# Altium schematic symbol library Component_2.SchLib: 14 symbols (part 2 of 2)
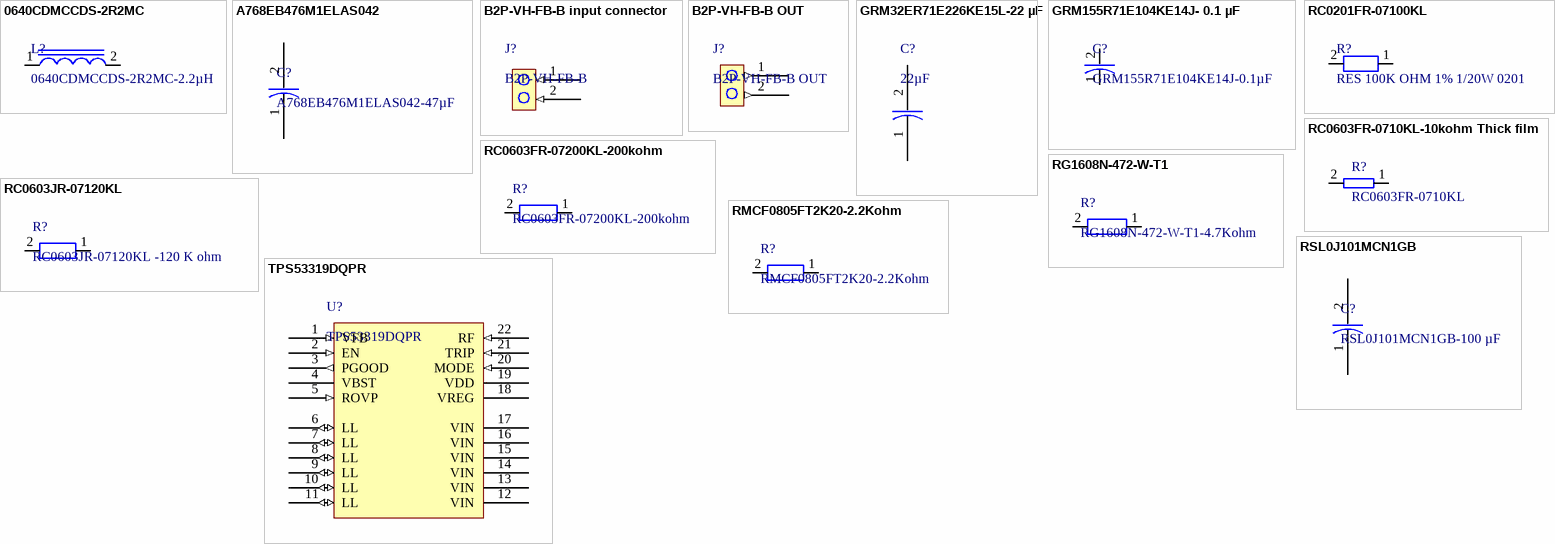
[diagram p1: symbols 0640CDMCCDS-2R2MC to TPS53319DQPR]

## RG1608N-472-W-T1
designator R?, comment RG1608N-472-W-T1-4.7Kohm
Res Thin Film 0603 4.7K Ohm 0.05% 0.1W(1/10W) ±10ppm/C Pad SMD Automotive Medical T/R; Manufacturer: Susumu; Max Power Dissipation: 100mW; Value: 4.7kΩ; Temperature Coefficient: 10ppm/°C; Voltage Rating: 75V; Supplier: DigiKey; Supplier Part Number: RG16N4.7KWDKR-ND; Manufacturer Part Number: RG1608N-472-W-T1; RoHS: Compliant; Category: Chip SMD Resistors; Stock: 5877; Pricing: 1=0.6, 10=0.499, 25=0.4624, 50=0.4368, 100=0.4133, 250=0.38512, 500=0.36608 (USD); Case/Package: 0603; Case Code (Imperial): 0603; Case Code (Metric): 1608; Composition: Metal Film; Country of Origin: Mainland China, Japan; Export Control Classification Number (ECCN) Code: EAR99; Features: Automotive AEC-Q200; Height: 400µm; Harmonized Tariff Schedule (HTS) Code: 8533.21.00.30; Introduction Date: 2006-03-30; Lead Free: Lead Free; Length: 1.6mm; Lifecycle Status: Obsolete; LTB Date: 2011-09-30; LTD Date: 2011-10-31; Max Operating Temperature: 155°C; Min Operating Temperature: -55°C; Mounting Technology: Surface Mount; Number of Terminals: 2; Number of Terminations: 2; Packaging: Cut Tape; Power Rating: 100mW; Schedule B: 8533210045, 8533210045|8533210045|8533210045|8533210045|8533210045; Termination: SMD/SMT; Tolerance: 0.05%; Voltage Rating (DC): 75V; Width: 800µm; Working Voltage: 75V; ComponentLink1URL: https://datasheet.octopart.com:443/RG1608N-472-W-T1-Susumu-datasheet-12510102.pdf?src-supplier=Upverter; ComponentLink1Description: https://datasheet.octopart.com:443/RG1608N-472-W-T1-Susumu-datasheet-12510102.pdf?src-supplier=Upverter; ComponentLink2URL: https://datasheet.octopart.com:443/RG1608N-472-W-T1-Susumu-datasheet-17595413.pdf?src-supplier=IHS; ComponentLink2Description: https://datasheet.octopart.com:443/RG1608N-472-W-T1-Susumu-datasheet-17595413.pdf?src-supplier=IHS; ComponentLink3URL: https://datasheet.octopart.com/RG1608N-472-W-T1-Susumu-datasheet-12509734.pdf; ComponentLink3Description: https://datasheet.octopart.com/RG1608N-472-W-T1-Susumu-datasheet-12509734.pdf; ComponentLink4URL: https://datasheet.octopart.com:443/RG1608N-472-W-T1-Susumu-datasheet-118552.pdf?src-supplier=DigiKey; ComponentLink4Description: https://datasheet.octopart.com:443/RG1608N-472-W-T1-Susumu-datasheet-118552.pdf?src-supplier=DigiKey; Supplier 1: DigiKey; Supplier Part Number 1: RG16N4.7KWDKR-ND
footprint RG1608N-472-W-T1-4.7kohm. (Chip Resistor, 2-Leads, Body 1.70x0.90mm, IPC Medium Density)
pins: 1, 2

## RMCF0805FT2K20-2.2Kohm
designator R?
Res Thick Film 0805 2.2K Ohm 1% 0.125W ±100ppm/°C Molded SMD Paper T/R; Manufacturer: Stackpole Electronics; Manufacturer Package Identifier: 0805 (2012 metric); Max Power Dissipation: 125mW; Value: 2.2kΩ; Voltage Rating: 150V; Supplier: DigiKey; Supplier Part Number: RMCF0805FT2K20CT-ND; Manufacturer Part Number: RMCF0805FT2K20; RoHS: Compliant; Category: Chip SMD Resistors; Stock: 127490; Pricing: 1=0.1, 10=0.027, 25=0.0196, 50=0.0156, 100=0.0127, 250=0.00988, 500=0.00824, 1000=0.00697 (USD); Case/Package: 0805; Case Code (Imperial): 0805; Case Code (Metric): 2012; China RoHS: Non-Compliant; Composition: Thick Film; Contact Plating: Tin; Depth: 1.25mm; Features: Automotive AEC-Q200; Height: 500µm; Length: 2mm; Lifecycle Status: Production; Max Operating Temperature: 155°C; Military Standard: Not; Min Operating Temperature: -55°C; Mounting Technology: Surface Mount; Number of Terminals: 2; Number of Terminations: 2; Packaging: Cut Tape (CT); Power Rating: 125mW; Radiation Hardening: No; Ratings: AEC-Q200; REACH SVHC: Yes; Schedule B: 8533210045, 8533210045|8533210045|8533210045|8533210045|8533210045; Temperature Coefficient: 100ppm/°C; Tolerance: 1%; Width: 1.25mm; Working Voltage: 150V; ComponentLink1URL: https://datasheet.octopart.com:443/RMCF0805FT2K20-Stackpole-Electronics-datasheet-182148065.pdf?src-supplier=IHS; ComponentLink1Description: https://datasheet.octopart.com:443/RMCF0805FT2K20-Stackpole-Electronics-datasheet-182148065.pdf?src-supplier=IHS; ComponentLink2URL: https://datasheet.octopart.com:443/RMCF0805FT2K20-Stackpole-Electronics-datasheet-28504820.pdf?src-supplier=Upverter; ComponentLink2Description: https://datasheet.octopart.com:443/RMCF0805FT2K20-Stackpole-Electronics-datasheet-28504820.pdf?src-supplier=Upverter; ComponentLink3URL: https://datasheet.octopart.com:443/RMCF0805FT2K20-Stackpole-Electronics-datasheet-141193804.pdf?src-supplier=Master+Electronics; ComponentLink3Description: https://datasheet.octopart.com:443/RMCF0805FT2K20-Stackpole-Electronics-datasheet-141193804.pdf?src-supplier=Master+Electronics; ComponentLink4URL: https://datasheet.octopart.com:443/RMCF0805FT2K20-Stackpole-Electronics-datasheet-116606903.pdf?src-supplier=Master+Electronics; ComponentLink4Description: https://datasheet.octopart.com:443/RMCF0805FT2K20-Stackpole-Electronics-datasheet-116606903.pdf?src-supplier=Master+Electronics; ComponentLink5URL: https://datasheet.octopart.com:443/RMCF0805FT2K20-Stackpole-Electronics-datasheet-189104163.pdf?src-supplier=Master+Electronics; ComponentLink5Description: https://datasheet.octopart.com:443/RMCF0805FT2K20-Stackpole-Electronics-datasheet-189104163.pdf?src-supplier=Master+Electronics; ComponentLink6URL: https://datasheet.octopart.com:443/RMCF0805FT2K20-Stackpole-Electronics-datasheet-62091608.pdf?src-supplier=Stackpole+Electronics; ComponentLink6Description: https://datasheet.octopart.com:443/RMCF0805FT2K20-Stackpole-Electronics-datasheet-62091608.pdf?src-supplier=Stackpole+Electronics; ComponentLink7URL: https://datasheet.octopart.com:443/RMCF0805FT2K20-Stackpole-Electronics-datasheet-12534581.pdf?src-supplier=Stackpole+Electronics; ComponentLink7Description: https://datasheet.octopart.com:443/RMCF0805FT2K20-Stackpole-Electronics-datasheet-12534581.pdf?src-supplier=Stackpole+Electronics; ComponentLink8URL: https://datasheet.octopart.com:443/RMCF0805FT2K20-Stackpole-Electronics-datasheet-10788263.pdf?src-supplier=Stackpole+Electronics; ComponentLink8Description: https://datasheet.octopart.com:443/RMCF0805FT2K20-Stackpole-Electronics-datasheet-10788263.pdf?src-supplier=Stackpole+Electronics; ComponentLink9URL: https://datasheet.octopart.com:443/RMCF0805FT2K20-Stackpole-Electronics-datasheet-11546843.pdf?src-supplier=Arrow+Electronics; ComponentLink9Description: https://datasheet.octopart.com:443/RMCF0805FT2K20-Stackpole-Electronics-datasheet-11546843.pdf?src-supplier=Arrow+Electronics; ComponentLink10URL: http://sigma.octopart.com:80/15940719/materials_sheet/Stackpole-Electronics-RMCF0805FT2K20.pdf?src-supplier=Compliance+Statements; ComponentLink10Description: http://sigma.octopart.com:80/15940719/materials_sheet/Stackpole-Electronics-RMCF0805FT2K20.pdf?src-supplier=Compliance+Statements; ComponentLink11URL: http://sigma.octopart.com:80/141158212/rohs_statement/Stackpole-Electronics-RMCF0805FT2K20.pdf?src-supplier=Compliance+Statements; ComponentLink11Description: http://sigma.octopart.com:80/141158212/rohs_statement/Stackpole-Electronics-RMCF0805FT2K20.pdf?src-supplier=Compliance+Statements; ComponentLink12URL: http://sigma.octopart.com:80/141158211/reach_statement/Stackpole-Electronics-RMCF0805FT2K20.pdf?src-supplier=Compliance+Statements; ComponentLink12Description: http://sigma.octopart.com:80/141158211/reach_statement/Stackpole-Electronics-RMCF0805FT2K20.pdf?src-supplier=Compliance+Statements; Supplier 1: DigiKey; Supplier Part Number 1: RMCF0805FT2K20TR-ND
footprint RMCF0805FT2K20-2.2kohm Thick film resistor
pins: 1, 2

## RSL0J101MCN1GB
designator C?, comment RSL0J101MCN1GB-100 µF
Cap Aluminum Polymer 100uF 6.3VDC 20% (6.3 X 4.2mm) SMD 0.018 Ohm 3200mA 2000h 105C T/R; Manufacturer: KYOCERA AVX; Value: 100µF; Dissipation Factor: 0.12%; ESR (Equivalent Series Resistance): 18mΩ; Leakage Current: 315µA; Life (Hours): 2000hours; Ripple Current: 320mA; Ripple Current (AC): 3.2A; Voltage Rating: 6.3V; Supplier: DigiKey; Supplier Part Number: 493-3819-2-ND; Manufacturer Part Number: RSL0J101MCN1GB; RoHS: Compliant; Category: Aluminum Electrolytic Capacitors; Stock: 490; Pricing: 1000=0.4217, 2000=0.39459, 3000=0.38092, 5000=0.36567, 7000=0.35671, 10000=0.34806 (USD); Case/Package: Radial; China RoHS: Compliant; Country of Origin: Mainland China; Diameter: 6.3mm; Export Control Classification Number (ECCN) Code: EAR99; Height: 4.2mm; Height - Seated (Max): 4.191mm; Harmonized Tariff Schedule (HTS) Code: 8532.22.00; Introduction Date: 2009-11-05; Length: 6.5mm; Lifecycle Status: Production; Max Operating Temperature: 105°C; Min Operating Temperature: -55°C; Mounting Technology: Surface Mount; Number of Terminals: 2; Packaging: Tape & Reel; REACH SVHC: Yes; Schedule B: 8532220020; Termination: SMD/SMT; Tolerance: 20%; Voltage Rating (DC): 6.3V; Width: 6.5mm; ComponentLink1URL: https://datasheet.octopart.com:443/RSL0J101MCN1GB-Nichicon-datasheet-169479674.pdf?src-supplier=IHS; ComponentLink1Description: https://datasheet.octopart.com:443/RSL0J101MCN1GB-Nichicon-datasheet-169479674.pdf?src-supplier=IHS; ComponentLink2URL: https://datasheet.octopart.com:443/RSL0J101MCN1GB-Nichicon-datasheet-12517196.pdf?src-supplier=Newark; ComponentLink2Description: https://datasheet.octopart.com:443/RSL0J101MCN1GB-Nichicon-datasheet-12517196.pdf?src-supplier=Newark; ComponentLink3URL: https://datasheet.octopart.com:443/RSL0J101MCN1GB-Nichicon-datasheet-65933903.pdf?src-supplier=Newark; ComponentLink3Description: https://datasheet.octopart.com:443/RSL0J101MCN1GB-Nichicon-datasheet-65933903.pdf?src-supplier=Newark; ComponentLink4URL: https://datasheet.octopart.com:443/RSL0J101MCN1GB-Nichicon-datasheet-182387194.pdf?src-supplier=Future+Electronics; ComponentLink4Description: https://datasheet.octopart.com:443/RSL0J101MCN1GB-Nichicon-datasheet-182387194.pdf?src-supplier=Future+Electronics; ComponentLink5URL: https://datasheet.octopart.com:443/RSL0J101MCN1GB-Nichicon-datasheet-161351370.pdf?src-supplier=Future+Electronics; ComponentLink5Description: https://datasheet.octopart.com:443/RSL0J101MCN1GB-Nichicon-datasheet-161351370.pdf?src-supplier=Future+Electronics; ComponentLink6URL: https://datasheet.octopart.com:443/RSL0J101MCN1GB-Nichicon-datasheet-145428908.pdf?src-supplier=Nichicon+SCT; ComponentLink6Description: https://datasheet.octopart.com:443/RSL0J101MCN1GB-Nichicon-datasheet-145428908.pdf?src-supplier=Nichicon+SCT; ComponentLink7URL: https://datasheet.octopart.com:443/RSL0J101MCN1GB-Nichicon-datasheet-140570125.pdf?src-supplier=Arrow.cn; ComponentLink7Description: https://datasheet.octopart.com:443/RSL0J101MCN1GB-Nichicon-datasheet-140570125.pdf?src-supplier=Arrow.cn; Supplier 1: DigiKey; Supplier Part Number 1: 493-3819-2-ND
footprint RSL0J221MCN1GB-100uf (Aluminum Electrolytic Capacitor, Body 6.40x6.40x6.30mm, IPC Low Density)
pins: 1, 2

## TPS53319DQPR
designator U?
1.5-V to 22-V, 14-A synchronous buck converter with eco-mode 22-LSON-CLIP -40 to 125; Manufacturer: Texas Instruments; Manufacturer Lifecycle Status: ACTIVE; Efficiency: 91%; Max Supply Voltage: 22V; Max Junction Temperature (Tj): 125°C; Max Output current: 14A; Max Output Voltage: 5.5V; Min Input Voltage: 1.5V; Min Output Voltage: 600mV; Nominal Supply Current: 420µA; Number of Outputs: 1; Output Configuration: Positive; Output Type: Adjustable; Quiescent Current: 320µA; Switching Frequency: 1MHz; Synchronous Rectifier: Yes; Supplier: DigiKey; Supplier Part Number: 296-39409-6-ND; Manufacturer Part Number: TPS53319DQPR; RoHS: Compliant; Category: Voltage Regulators - Switching; Stock: 4528; Pricing: 1=8.17, 10=6.326, 25=5.8648, 100=5.3574, 250=5.22648 (USD); Ambient Temperature Range High: 85°C; Contact Plating: Gold; Height: 1.5mm; Lead Free: Contains Lead; Length: 6mm; Lifecycle Status: Production; Max Operating Temperature: 85°C; Min Operating Temperature: -40°C; Min Supply Voltage: 1.5V; Mounting Technology: Surface Mount; Pins: 22; Output Current: 14A; Output Voltage: 5.5V; Packaging: Tape and Reel; Radiation Hardening: No; Schedule B: 8542390000, 8542390000|8542390000|8542390000|8542390000|8542390000; Thickness: 1.5mm; Topology: Buck; Width: 5mm; ComponentLink1URL: https://octopart.com:443/opatz8j6/c1?t=AL0UYSoI0wy8P97GosR9xrHUjte7L0Qo2-x4AmHoIy7ffP5vG_O73v4P7Qp22pCdP8FGf4tBQ1mR7pZBPgKgCjwNC9TSRhmN8eBHcUZ6Qse-4jciZLAlL4yh0sUxw6hK2wjCfMg-fcT9ZTP3q_5slqkOiKMHf2QuZLrS8qOrHaTqAXm8URBonXHShlHcY_9JW_UbEj3BLH_4AM8R0zIbrlZ4vYZkteZ4JX-JD4VzZp0NEqG6N4FuZcECKTj5iISTyACMSHq2jgZPJts0gi1ZlRYwlUvBazFyMcr3Z4-IId-7yxx4V3WvVaFk1slvgPu2KYE66fMtLnomQbcPc8wZjJzFaZCEHMQ5AH6TAB1sRiqZqDKDNfnQpzO_fEGnUlXyaosEjUQ&src-supplier=Texas+Instruments; ComponentLink1Description: https://octopart.com:443/opatz8j6/c1?t=AL0UYSoI0wy8P97GosR9xrHUjte7L0Qo2-x4AmHoIy7ffP5vG_O73v4P7Qp22pCdP8FGf4tBQ1mR7pZBPgKgCjwNC9TSRhmN8eBHcUZ6Qse-4jciZLAlL4yh0sUxw6hK2wjCfMg-fcT9ZTP3q_5slqkOiKMHf2QuZLrS8qOrHaTqAXm8URBonXHShlHcY_9JW_UbEj3BLH_4AM8R0zIbrlZ4vYZkteZ4JX-JD4VzZp0NEqG6N4FuZcECKTj5iISTyACMSHq2jgZPJts0gi1ZlRYwlUvBazFyMcr3Z4-IId-7yxx4V3WvVaFk1slvgPu2KYE66fMtLnomQbcPc8wZjJzFaZCEHMQ5AH6TAB1sRiqZqDKDNfnQpzO_fEGnUlXyaosEjUQ&src-supplier=Texas+Instruments; ComponentLink2URL: https://datasheet.octopart.com:443/TPS53319DQPR-Texas-Instruments-datasheet-38175576.pdf?src-supplier=Texas+Instruments; ComponentLink2Description: https://datasheet.octopart.com:443/TPS53319DQPR-Texas-Instruments-datasheet-38175576.pdf?src-supplier=Texas+Instruments; ComponentLink3URL: https://datasheet.octopart.com:443/TPS53319DQPR-Texas-Instruments-datasheet-34154633.pdf?src-supplier=Texas+Instruments; ComponentLink3Description: https://datasheet.octopart.com:443/TPS53319DQPR-Texas-Instruments-datasheet-34154633.pdf?src-supplier=Texas+Instruments; ComponentLink4URL: https://datasheet.octopart.com:443/TPS53319DQPR-Texas-Instruments-datasheet-15761990.pdf?src-supplier=Texas+Instruments; ComponentLink4Description: https://datasheet.octopart.com:443/TPS53319DQPR-Texas-Instruments-datasheet-15761990.pdf?src-supplier=Texas+Instruments; ComponentLink5URL: https://datasheet.octopart.com:443/TPS53319DQPR-Texas-Instruments-datasheet-12082334.pdf?src-supplier=Texas+Instruments; ComponentLink5Description: https://datasheet.octopart.com:443/TPS53319DQPR-Texas-Instruments-datasheet-12082334.pdf?src-supplier=Texas+Instruments; ComponentLink6URL: https://datasheet.octopart.com:443/TPS53319DQPR-Texas-Instruments-datasheet-11525761.pdf?src-supplier=Texas+Instruments; ComponentLink6Description: https://datasheet.octopart.com:443/TPS53319DQPR-Texas-Instruments-datasheet-11525761.pdf?src-supplier=Texas+Instruments; ComponentLink7URL: https://sigma.octopart.com:443/49251923/technical_drawing/Texas-Instruments-TPS53319DQPR.pdf?src-supplier=Texas+Instruments; ComponentLink7Description: https://sigma.octopart.com:443/49251923/technical_drawing/Texas-Instruments-TPS53319DQPR.pdf?src-supplier=Texas+Instruments; ComponentLink8URL: https://datasheet.octopart.com:443/TPS53319DQPR-Texas-Instruments-datasheet-150455030.pdf?src-supplier=Upverter; ComponentLink8Description: https://datasheet.octopart.com:443/TPS53319DQPR-Texas-Instruments-datasheet-150455030.pdf?src-supplier=Upverter; ComponentLink9URL: https://datasheet.octopart.com:443/TPS53319DQPR-Texas-Instruments-datasheet-160672347.pdf?src-supplier=LCSC; ComponentLink9Description: https://datasheet.octopart.com:443/TPS53319DQPR-Texas-Instruments-datasheet-160672347.pdf?src-supplier=LCSC; ComponentLink10URL: http://sigma.octopart.com:80/reach_statement/Texas-Instruments-company-64.pdf?src-supplier=Compliance+Statements; ComponentLink10Description: http://sigma.octopart.com:80/reach_statement/Texas-Instruments-company-64.pdf?src-supplier=Compliance+Statements; ComponentLink11URL: http://sigma.octopart.com:80/conflict_mineral_statement/Texas-Instruments-company-63.pdf?src-supplier=Compliance+Statements; ComponentLink11Description: http://sigma.octopart.com:80/conflict_mineral_statement/Texas-Instruments-company-63.pdf?src-supplier=Compliance+Statements; Supplier 1: DigiKey; Supplier Part Number 1: 296-39409-6-ND
footprint CONV_TPS53318DQPR
pins: 1 VFB (in), 2 EN (in), 3 PGOOD (out), 4 VBST (power), 5 ROVP (in), 6 LL (io), 7 LL (io), 8 LL (io), 9 LL (io), 10 LL (io), 11 LL (io), 12 VIN (power), 13 VIN (power), 14 VIN (power), 15 VIN (power), 16 VIN (power), 17 VIN (power), 18 VREG (power), 19 VDD (power), 20 MODE (in), 21 TRIP (in), 22 RF (in)